# Altium schematic symbol library ic-ьгч.SchLib: 1 symbol
Pins are listed as number, name and electrical type; pins without a type are passive.

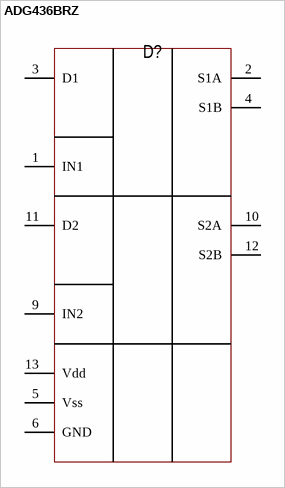
[diagram p0: symbol ADG436BRZ]

## ADG436BRZ
designator D?
Аналоговый переключатель, SPDT; Manufacturer: ST Microelectronics; ValueManufacturerPartNumber: Аналоговый переключатель, SPDT, -, 5.5 MHz, ±2...20V, 0...+70°C, SO-16; Supply: ±2...20V; GainBandwidth: 5.5 MHz; HelpURL: https://www.digikey.com/product-detail/en/texas-instruments/OPA2337EA-3K/296-26252-1-ND/2254915; Package: SO-16; ComponentType: Аналоговый переключатель, SPDT; Temperature: 0...+70°C; OutputType: -
footprint 16-SO (pitch 1.27 mm)
pins: 1 IN1, 2 S1A, 3 D1, 4 S1B, 5 Vss, 6 GND, 7 NC hidden, 9 IN2, 10 S2A, 11 D2, 12 S2B, 13 Vdd, 14 NC hidden, 15 NC hidden, 16 NC hidden, 16 NC hidden